# Altium footprint library Crystals.PcbLib: 1 footprints
Each footprint in its own frame and in the unit in brackets; x right, y up, seen from the top. Pads: shape width x height; smd on the part's side, far side on the other; paste and mask are expansions set on the pad; w line width, h text height; cw(c..) or ccw(c..) is an arc to the next point about the centre after c.
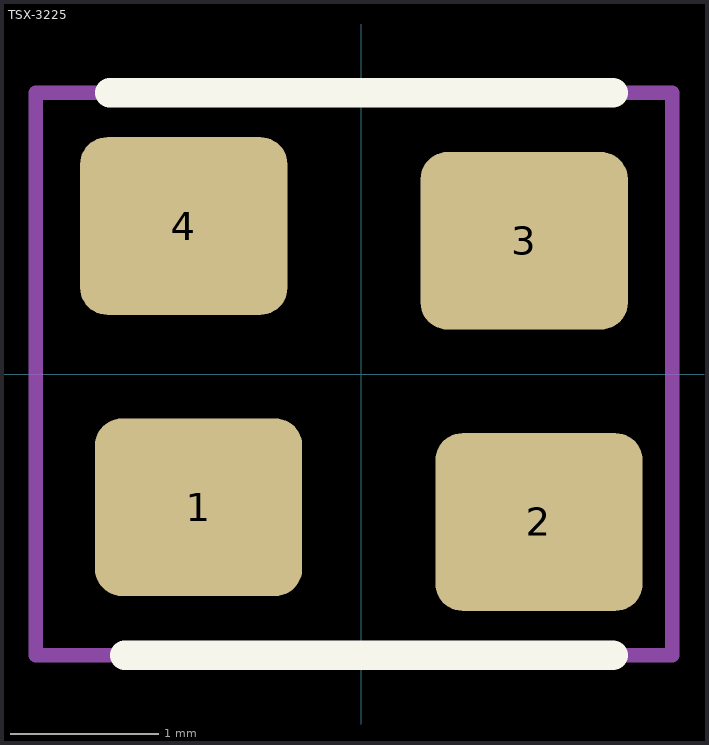
[diagram p0: the footprint, top view; thin cyan lines are the x and y axes]

## TSX-3225 [mm]
height 2
pads (4):
  rrect30% 1.4x1.2 smd paste-0.05: 1(-1.1,-0.9) 2(1.2,-1) 3(1.1,0.9) 4(-1.2,1)
Top Overlay:
  lines w0.2: -1.7,1.9 1.7,1.9 ; -1.6,-1.9 1.7,-1.9
Mechanical 15:
  lines w0.1: -2.2,-1.9 -2.2,1.9 2.1,1.9 2.1,-1.9 -2.2,-1.9
Assembly:
  lines w0.1: -2.2,-1.9 2.1,-1.9 2.1,1.9 -2.2,1.9 -2.2,-1.9
  text ".Designator" at -2.2,-0.3 h1.1
3D body: height 0.6, standoff 0.05, extent -1.6,-1.25 1.6,1.25